# Altium footprint library PCB.PSU.DCDC.001.A1.PcbLib: 25 footprints (part 1 of 2)
Each footprint in its own frame and in the unit in brackets; x right, y up, seen from the top. Pads: shape width x height; smd on the part's side, far side on the other; paste and mask are expansions set on the pad; w line width, h text height; cw(c..) or ccw(c..) is an arc to the next point about the centre after c.
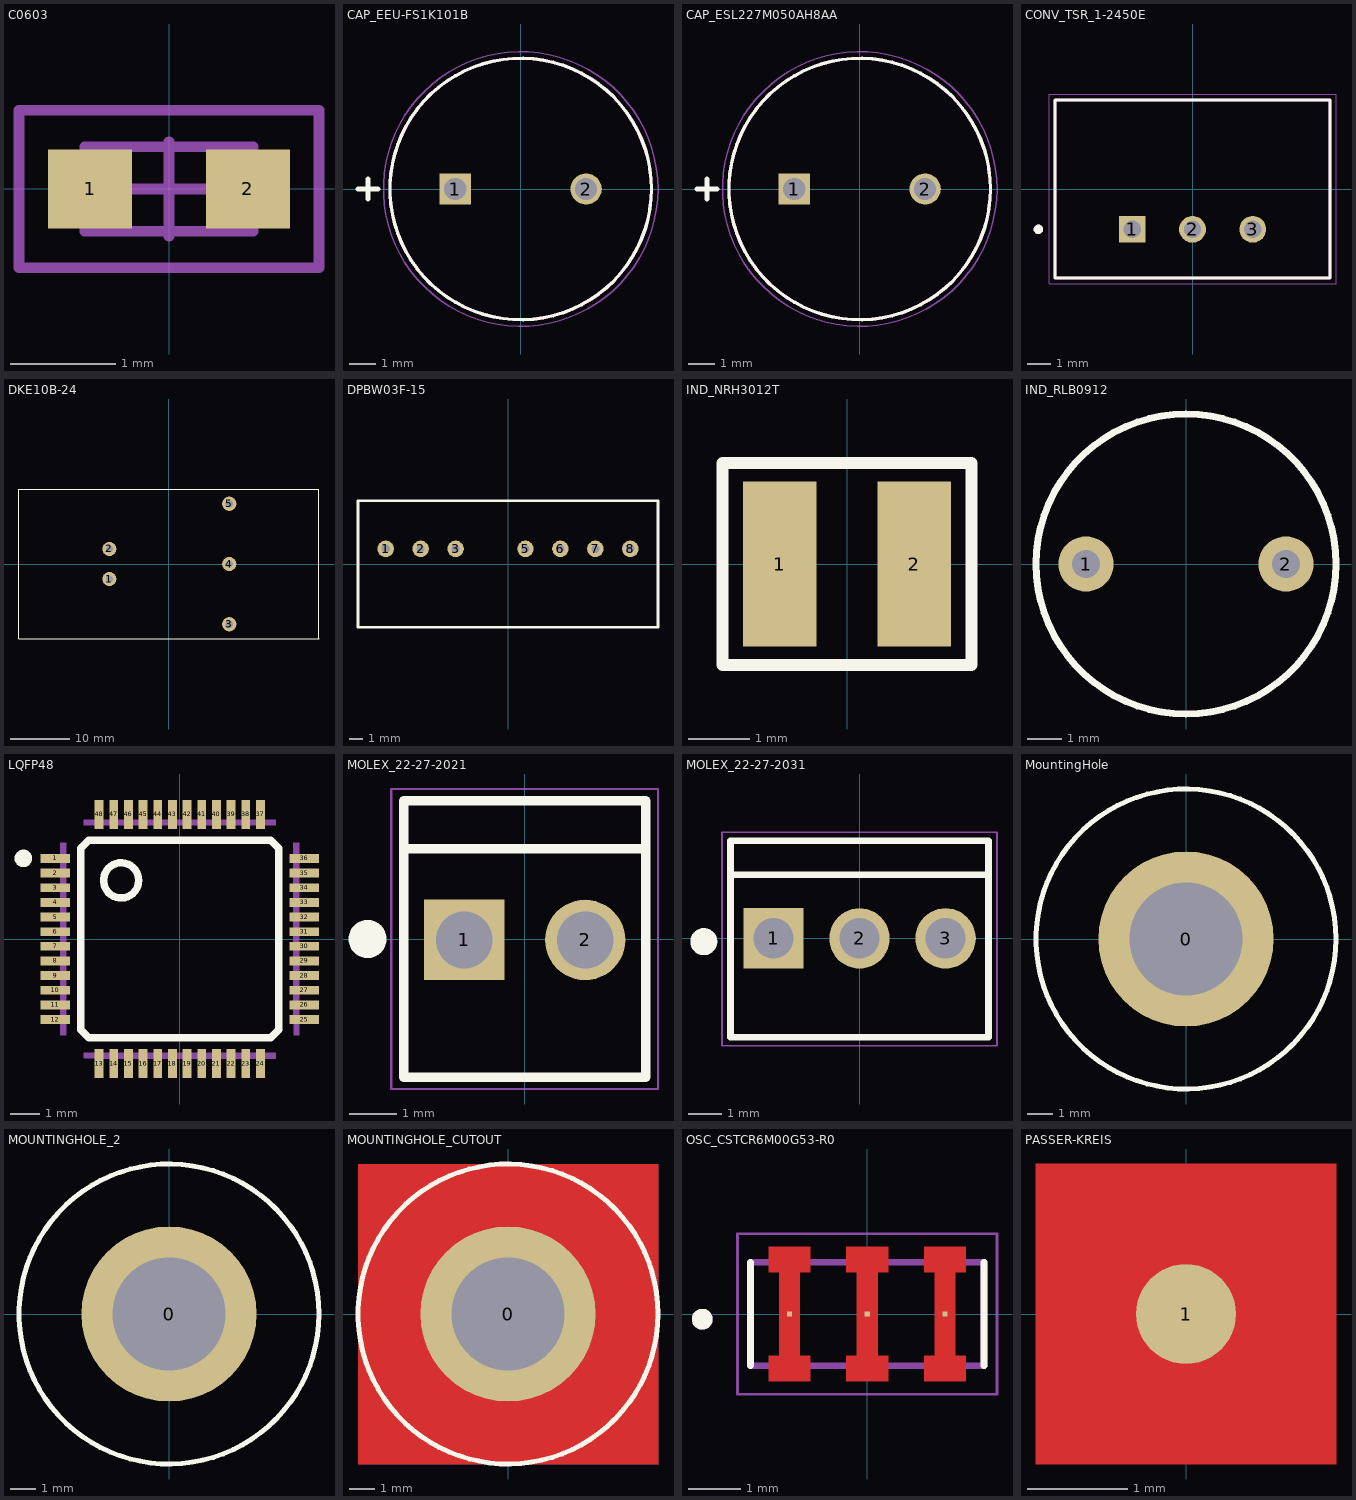
[diagram p0: the footprints below, top view; thin cyan lines are the x and y axes]

## C0603 [mm] "CAPACITOR SMD 0603"
height 0.9
pads (2):
  rect 0.8x0.75 smd: 1(-0.75,0) 2(0.75,0)
Mechanical 13:
  lines w0.1: -0.8,-0.4 0.8,-0.4 0.8,0.4 -0.8,0.4 -0.8,-0.4
Mechanical 15:
  lines w0.1: -0.45,0 0.45,0 ; 0,-0.45 0,0.45 ; -1.425,-0.75 1.425,-0.75 1.425,0.75 -1.425,0.75 -1.425,-0.75
3D body "User Library-0603(1608M) Cap.STEP": height 0.79, standoff 0, extent -1,-0.394 1,0.394

## CAP_EEU-FS1K101B [mm]
pads (2):
  rect 1.2x1.2 hole 0.85: 1(-2.5,0)
  round 1.2 hole 0.85: 2(2.5,0)
Top Overlay:
  circle w0.127: c0,0 r5
  lines w0.2: -6.223,0 -5.461,0 ; -5.842,-0.381 -5.842,0.381
Mechanical 13:
  circle w0.127: c0,0 r5
Mechanical 15:
  circle w0.05: c0,0 r5.25
3D body "step_temp.STEP": height 12.5, standoff -17, extent -5,-4.998 5,4.998

## CAP_ESL227M050AH8AA [mm]
pads (2):
  rect 1.2x1.2 hole 0.85: 1(-2.5,0)
  round 1.2 hole 0.85: 2(2.5,0)
Top Overlay:
  circle w0.127: c0,0 r5
  lines w0.2: -6.223,0 -5.461,0 ; -5.842,-0.381 -5.842,0.381
Mechanical 13:
  circle w0.127: c0,0 r5
Mechanical 15:
  circle w0.05: c0,0 r5.25
3D body "step_temp.STEP": height 12.5, standoff -17, extent -5,-4.998 5,4.998

## CONV_TSR_1-2450E [mm]
pads (3):
  rect 1.13x1.13 hole 0.73: 1(-2.54,-1.7)
  round 1.13 hole 0.73: 2(0,-1.7) 3(2.54,-1.7)
Top Overlay:
  circle w0.2: c-6.5,-1.7 r0.1
  lines w0.127: -5.8,-3.75 -5.8,3.75 5.8,3.75 5.8,-3.75 -5.8,-3.75
Mechanical 13:
  circle w0.2: c-6.5,-1.7 r0.1
  lines w0.127: -5.8,-3.75 -5.8,3.75 5.8,3.75 5.8,-3.75 -5.8,-3.75
Mechanical 15:
  lines w0.05: -6.05,-4 6.05,-4 6.05,4 -6.05,4 -6.05,-4
3D body: height 10.2, standoff 0.5, extent -5.8,-3.75 5.8,3.75

## DKE10B-24 [mm] "CONN USB MICRO B RECPT SMT R/A"
height 13.5
pads (5):
  round 2.4 hole 1.2: 1(-10.1,-2.55) 2(-10.1,2.55) 3(10.2,-10.2) 4(10.2,0) 5(10.2,10.2)
Top Overlay:
  lines w0.2: -25.4,-12.7 -25.4,12.7 25.4,12.7 25.4,-12.7 -25.4,-12.7
3D body: height 11.4, standoff 0.13, extent -25.4,-12.7 25.4,12.7

## DPBW03F-15 [mm] "CONN USB MICRO B RECPT SMT R/A"
height 13.5
pads (7):
  round 1.2 hole 0.6: 1(-8.89,1.1) 2(-6.35,1.1) 3(-3.81,1.1) 5(1.27,1.1) 6(3.81,1.1) 7(6.35,1.1) 8(8.89,1.1)
Top Overlay:
  lines w0.2: -10.9,-4.6 -10.9,4.6 10.9,4.6 10.9,-4.6 -10.9,-4.6
3D body: height 11.1, standoff 0.5, extent -10.9,-4.6 10.9,4.6

## IND_NRH3012T [mm] "CAPACITOR SMD 1210"
height 1.3
pads (2):
  rect 1.2x2.7 smd: 1(-1.1,0) 2(1.1,0)
Top Overlay:
  lines w0.2: -2.032,-1.651 -2.032,1.651 2.032,1.651 2.032,-1.651 -2.032,-1.651
3D body: height 1.9, standoff 0, extent -1.5,-1.5 1.5,1.5

## IND_RLB0912 [mm]
pads (2):
  round 1.6 hole 0.8: 1(-2.9,0) 2(2.9,0)
Top Overlay:
  circle w0.2: c0,0 r4.35
3D body "rlb0912-470kl.stp": height 11, standoff -6, extent -4.6,-4.6 4.6,4.6

## LQFP48 [mm]
pads (48):
  rect 1x0.3 smd: 1(-4.25,2.75) 2(-4.25,2.25) 3(-4.25,1.75) 4(-4.25,1.25) 5(-4.25,0.75) 6(-4.25,0.25) 7(-4.25,-0.25) 8(-4.25,-0.75) 9(-4.25,-1.25) 10(-4.25,-1.75) 11(-4.25,-2.25) 12(-4.25,-2.75) 25(4.25,-2.75) 26(4.25,-2.25) 27(4.25,-1.75) 28(4.25,-1.25) 29(4.25,-0.75) 30(4.25,-0.25) 31(4.25,0.25) 32(4.25,0.75) 33(4.25,1.25) 34(4.25,1.75) 35(4.25,2.25) 36(4.25,2.75)
  rect 0.3x1 smd: 13(-2.75,-4.25) 14(-2.25,-4.25) 15(-1.75,-4.25) 16(-1.25,-4.25) 17(-0.75,-4.25) 18(-0.25,-4.25) 19(0.25,-4.25) 20(0.75,-4.25) 21(1.25,-4.25) 22(1.75,-4.25) 23(2.25,-4.25) 24(2.75,-4.25) 37(2.75,4.25) 38(2.25,4.25) 39(1.75,4.25) 40(1.25,4.25) 41(0.75,4.25) 42(0.25,4.25) 43(-0.25,4.25) 44(-0.75,4.25) 45(-1.25,4.25) 46(-1.75,4.25) 47(-2.25,4.25) 48(-2.75,4.25)
Top Overlay:
  circle w0.254: c-2,2 r0.6
  circle w0.3: c-5.334,2.75 r0.15
  lines w0.254: -3.375,-3.1 -3.375,3.1 -3.1,3.375 3.1,3.375 3.375,3.1 3.375,-3.1 3.1,-3.375 -3.1,-3.375 -3.375,-3.1
Mechanical 13:
  drawing of 48 lines, arcs and shapes, not listed
3D body "STM32F030C8T6.STEP": height 1.57, standoff -0.03, extent -4.5,-4.5 4.5,4.5

## MOLEX_22-27-2021 [mm]
pads (2):
  rect 1.69x1.69 / inner round 1.69 / far side rect 1.69x1.69 hole 1.19: 1(-1.27,-0.02)
  round 1.69 hole 1.19: 2(1.27,-0.02)
Top Overlay:
  circle w0.4: c-3.302,0 r0.2
  lines w0.2: -2.54,1.9 2.54,1.9 ; -2.54,-2.9 2.54,-2.9 2.54,-1.9 2.54,2.9 -2.54,2.9 -2.54,-1.9 -2.54,-2.9
Mechanical 15:
  lines w0.05: -2.8,-3.15 -2.8,3.15 2.8,3.15 2.8,-3.15 -2.8,-3.15
3D body "22-27-2021.stp": height 12.12, standoff -3.14, extent -2.54,-2.92 2.54,2.88

## MOLEX_22-27-2031 [mm]
pads (3):
  rect 1.785x1.785 hole 1.19: 1(-2.54,0)
  round 1.785 hole 1.19: 2(0,0) 3(2.54,0)
Top Overlay:
  circle w0.4: c-4.6,-0.1 r0.2
  lines w0.2: -3.81,1.88 3.81,1.88 ; -3.81,-2.92 -3.81,2.88 3.81,2.88 3.81,-2.92 -3.81,-2.92
Mechanical 15:
  lines w0.05: -4.06,-3.17 4.06,-3.17 4.06,3.13 -4.06,3.13 -4.06,-3.17
3D body "22-27-2031.stp": height 12.12, standoff -3.14, extent -3.81,-2.921 3.81,2.879

## MountingHole [mm]
height 46
pads (1):
  round 7 hole 4.5: 0(0,0)
Top Overlay:
  circle w0.2: c0,0 r6

## MOUNTINGHOLE_2 [mm]
pads (1):
  round 7 hole 4.5: 0(0,0)
Top Overlay:
  circle w0.2: c0,0 r6

## MOUNTINGHOLE_CUTOUT [mm]
height 46
pads (1):
  round 7 hole 4.5: 0(0,0)
Top Layer:
  pour cut-out: -6,6 6,6 6,-6 -6,-6
Bottom Layer:
  pour cut-out: -6,6 6,6 6,-6 -6,-6
Top Overlay:
  circle w0.2: c0,0 r6

## OSC_CSTCR6M00G53-R0 [mm]
height 13.5
pads (3):
  rect 0.1x0.1 smd paste+0.35 mask+0.45: 1(-1.5,0) 2(0,0) 3(1.5,0)
Top Layer:
  region: 0.4,0.8 0.2,0.8 0.2,-0.8 0.4,-0.8 0.4,-1.3 -0.4,-1.3 -0.4,-0.8 -0.2,-0.8 -0.2,0.8 -0.4,0.8 -0.4,1.3 0.4,1.3
  region: -1.1,0.8 -1.3,0.8 -1.3,-0.8 -1.1,-0.8 -1.1,-1.3 -1.9,-1.3 -1.9,-0.8 -1.7,-0.8 -1.7,0.8 -1.9,0.8 -1.9,1.3 -1.1,1.3
  region: 1.9,0.8 1.7,0.8 1.7,-0.8 1.9,-0.8 1.9,-1.3 1.1,-1.3 1.1,-0.8 1.3,-0.8 1.3,0.8 1.1,0.8 1.1,1.3 1.9,1.3
Top Overlay:
  circle w0.2: c-3.18,-0.1 r0.1
  lines w0.127: -2.25,-1 -2.25,1 ; 2.25,-1 2.25,1
Mechanical 13:
  circle w0.2: c-3.18,-0.1 r0.1
  lines w0.127: -2.25,-1 2.25,-1 2.25,1 -2.25,1 -2.25,-1
Mechanical 15:
  lines w0.05: -2.5,-1.55 2.5,-1.55 2.5,1.55 -2.5,1.55 -2.5,-1.55
3D body "step_temp.STEP": height 1.2, standoff 0, extent -2.25,-1 2.25,1

## PASSER-KREIS [mm]
height 11.1
pads (1):
  round 1 smd paste-0.5 mask+0.05: 1(0,0)
Top Layer:
  pour cut-out: -1.5,1.5 1.5,1.5 1.5,-1.5 -1.5,-1.5
Top Solder:
  circle w2: c0,0 r0.5
Mechanical 1:
  circle w0.2: c0,0 r0.5